# EAGLE library part PINHD-1X14 (library pinhead)
PIN HEADER
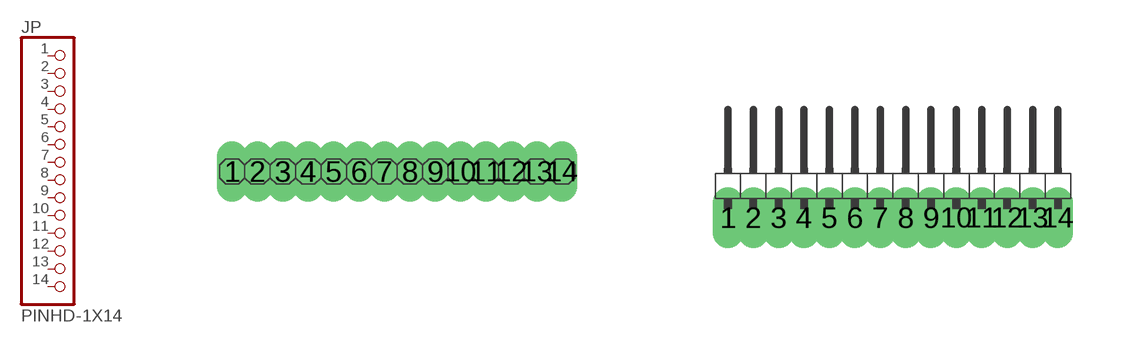
[diagram p8: symbol with the pads of 1X14; footprints 1X14, 1X14/90]

Designator prefix JP

## PINHD-1X14  [1X14]
1  1  pas
2  2  pas
3  3  pas
4  4  pas
5  5  pas
6  6  pas
7  7  pas
8  8  pas
9  9  pas
10  10  pas
11  11  pas
12  12  pas
13  13  pas
14  14  pas

## PINHD-1X14/90  [1X14/90]
Pads as for 1X14

## Footprint 1X14 (pad centres in mm)
PIN HEADER
drill 0.254 long: 1 -4.128,0; 2 -3.493,0; 3 -2.857,0; 4 -2.223,0; 5 -1.587,0; 6 -0.953,0; 7 -0.318,0; 8 0.318,0; 9 0.953,0; 10 1.587,0; 11 2.223,0; 12 2.857,0; 13 3.493,0; 14 4.128,0

## Footprint 1X14/90 (pad centres in mm)
PIN HEADER
drill 0.254 long: 1 -4.128,-0.953; 2 -3.493,-0.953; 3 -2.857,-0.953; 4 -2.223,-0.953; 5 -1.587,-0.953; 6 -0.953,-0.953; 7 -0.318,-0.953; 8 0.318,-0.953; 9 0.953,-0.953; 10 1.587,-0.953; 11 2.223,-0.953; 12 2.857,-0.953; 13 3.493,-0.953; 14 4.128,-0.953